# Altium schematic symbol library uln2003a.SchLib: 1 symbol
Pins are listed as number, name and electrical type; pins without a type are passive.

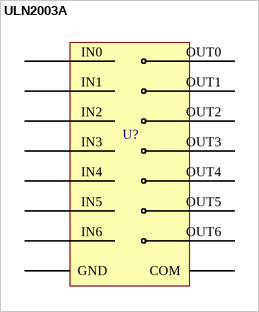
[diagram p0: symbol ULN2003A]

## ULN2003A
designator U?
Darlington pair current driver
footprint DIL16
pins: 1 IN0, 2 IN1, 3 IN2, 4 IN3, 5 IN4, 6 IN5, 7 IN6, 8 GND, 9 COM, 10 IN6, 11 IN5, 12 IN4, 13 IN3, 14 IN2, 15 IN1, 16 IN0
text: OUT0; OUT1; OUT2; OUT3; OUT4; OUT5; OUT6